# Altium footprint library LED_GREEN.PcbLib: 3 footprints
Each footprint in its own frame and in the unit in brackets; x right, y up, seen from the top. Pads: shape width x height; smd on the part's side, far side on the other; paste and mask are expansions set on the pad; w line width, h text height; cw(c..) or ccw(c..) is an arc to the next point about the centre after c.
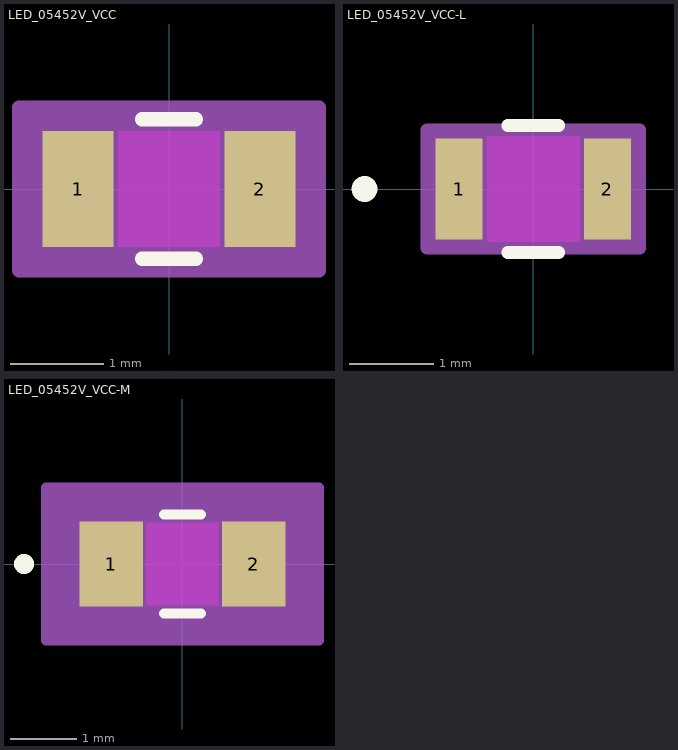
[diagram p0: the footprints below, top view; thin cyan lines are the x and y axes]

## LED_05452V_VCC [mil]
pads (2):
  rect 30x49 smd paste+0 mask+0: 1(-38.5,0) 2(38.5,0)
Top Layer keep-out:
  region: -21.5,-22.5 -21.5,22.5 21.5,22.5 21.5,-22.5
Top Overlay:
  lines w6: -11.39,-29.5 11.39,-29.5 ; -11.39,29.5 11.39,29.5
Keep-Out Layer:
  region: -21.5,-24.5 -21.5,24.5 21.5,24.5 21.5,-24.5
Mechanical 13:
  lines w1: -39.5,-24.5 -39.5,24.5 ; -39.5,-24.5 39.5,-24.5 ; -39.5,-24.5 -23.5,-24.5 -23.5,24.5 -39.5,24.5 ; -39.5,-24.5 -39.5,24.5 ; -39.5,24.5 39.5,24.5 ; 39.5,-24.5 39.5,24.5 ; 39.5,-24.5 39.5,24.5 ; 39.5,-24.5 23.5,-24.5 23.5,24.5 39.5,24.5
Mechanical 15:
  region: 63.5,-34.5 -63.5,-34.5 -63.5,34.5 63.5,34.5
  lines w6: -63.5,-34.5 63.5,-34.5 63.5,34.5 -63.5,34.5 -63.5,-34.5
3D body "LED_05452V_VCC.step": height 42.99, standoff 0, extent -39.49,-24.49 39.49,24.49

## LED_05452V_VCC-L [mil]
pads (2):
  rect 22x47 smd paste+0 mask+0: 1(-34.5,0) 2(34.5,0)
Top Layer keep-out:
  region: -21.5,-22.5 -21.5,22.5 21.5,22.5 21.5,-22.5
Top Overlay:
  circle w6: c-78.5,0 r3
  lines w6: -11.85,-29.5 11.85,-29.5 ; -11.85,29.5 11.85,29.5
Keep-Out Layer:
  region: -21.5,-24.5 -21.5,24.5 21.5,24.5 21.5,-24.5
Mechanical 13:
  circle w0: c-29.5,0 r3
  lines w1: -39.5,-24.5 -39.5,24.5 ; -39.5,-24.5 -23.5,-24.5 -23.5,24.5 -39.5,24.5 ; -39.5,-24.5 39.5,-24.5 ; -39.5,-24.5 -39.5,24.5 ; -39.5,24.5 39.5,24.5 ; 39.5,-24.5 23.5,-24.5 23.5,24.5 39.5,24.5 ; 39.5,-24.5 39.5,24.5 ; 39.5,-24.5 39.5,24.5
Mechanical 15:
  region: 49.5,-27.5 -49.5,-27.5 -49.5,27.5 49.5,27.5
  lines w6: -49.5,-27.5 -49.5,27.5 49.5,27.5 49.5,-27.5 -49.5,-27.5
3D body "LED_05452V_VCC.step": height 42.99, standoff 0, extent -39.49,-24.49 39.49,24.49

## LED_05452V_VCC-M [mil]
pads (2):
  rect 38x51 smd paste+0 mask+0: 1(-42.5,0) 2(42.5,0)
Top Layer keep-out:
  region: -21.5,-22.5 -21.5,22.5 21.5,22.5 21.5,-22.5
Top Overlay:
  circle w6: c-94.5,0 r3
  lines w6: -11.03,-29.5 11.03,-29.5 ; -11.03,29.5 11.03,29.5
Keep-Out Layer:
  region: -21.5,-24.5 -21.5,24.5 21.5,24.5 21.5,-24.5
Mechanical 13:
  circle w0: c-37.5,0 r3
  lines w1: -39.5,-24.5 -39.5,24.5 ; -39.5,-24.5 -23.5,-24.5 -23.5,24.5 -39.5,24.5 ; -39.5,-24.5 39.5,-24.5 ; -39.5,-24.5 -39.5,24.5 ; -39.5,24.5 39.5,24.5 ; 39.5,-24.5 23.5,-24.5 23.5,24.5 39.5,24.5 ; 39.5,-24.5 39.5,24.5 ; 39.5,-24.5 39.5,24.5
Mechanical 15:
  region: 81.5,-45.5 -81.5,-45.5 -81.5,45.5 81.5,45.5
  lines w6: -81.5,-45.5 -81.5,45.5 81.5,45.5 81.5,-45.5 -81.5,-45.5
3D body "LED_05452V_VCC.step": height 42.99, standoff 0, extent -39.49,-24.49 39.49,24.49